# Altium schematic symbol library schem_lib.SchLib: 11 symbols
Pins are listed as number, name and electrical type; pins without a type are passive.

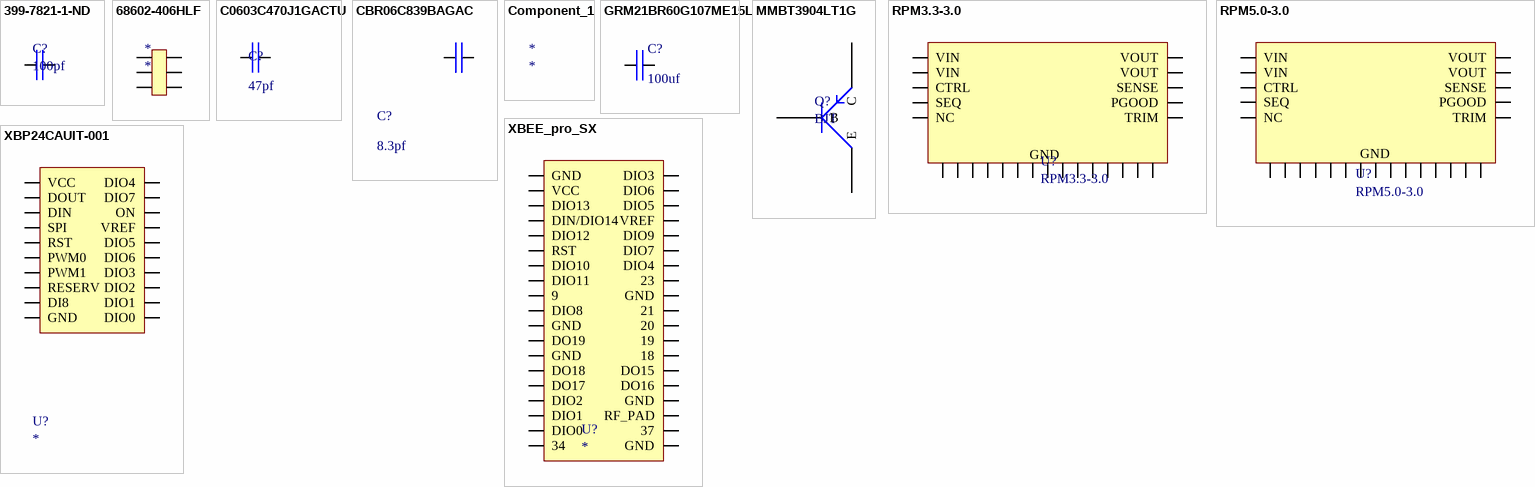
[diagram p0: symbols 399-7821-1-ND to XBP24CAUIT-001]

## 399-7821-1-ND
designator C?, comment 100pf
KEMET - C0603C101J1GACTU - Multilayer Ceramic Capacitor, C Series, 100 pF, - 5%, C0G / NP0, 100 V, 0603 [1608 Metric] RoHS Compliant: Yes; Voltage Rating (DC): 100V; Supplier 1: Digi-Key; Manufacturer: KEMET; Manufacturer Part Number: C0603C101J1GACTU; RoHS: Yes; Category: Ceramic Capacitors; Stock 1: 133506; Pricing 1: 1=0.10000, 10=0.06000, 100=0.02670, 500=0.01906, 1000=0.01497 (USD); Mount: Surface Mount; Case/Package: 0603; Dielectric Material: Ceramic; Min Operating Temperature: -55°C; Max Operating Temperature: 125°C; Capacitance: 100pF; Tolerance: 5%; Packaging: Tape and Reel; Dielectric: C0G; Length: 1.6mm; Height: 0.8mm; Depth: 0.8mm; Radiation Hardening: No; Lead Free: Lead Free; ComponentLink1URL: https://datasheet.ciiva.com/18192/getdatasheetpartid-308025-18192620.pdf?src-supplier=Verical; ComponentLink1Description: https://datasheet.ciiva.com/18192/getdatasheetpartid-308025-18192620.pdf?src-supplier=Verical; Supplier Part Number 1: 399-7821-1-ND
footprint 0603
pins: 1, 2

## 68602-406HLF
designator *
Headers & Wire Housings 6P DR VRT UNSHRD HDR TIN OVER NICKEL; Manufacturer: Amphenol FCI; Manufacturer Part Number: 68602-406HLF; Number of Positions: 6; Max Voltage Rating (AC): 1.5kV; Connector Type: Male Pin; Current Rating: 3A; Insulation Resistance: 5GR; Pitch: 2.54mm; Row Spacing: 0.1inch; Contact Post Length: 3.81mm; Supplier 1: Digi-Key; RoHS: Yes; Category: Headers and Wire Housings; Stock 1: 6197; Pricing 1: 1=0.25000, 10=0.23400, 100=0.16220, 500=0.13728, 1000=0.11232, 5000=0.09984, 10000=0.09048 (USD); Mount: Through Hole; Housing Color: Black; Contact Plating: Tin; Contact Material: Bronze; Color: Black; Housing Material: Thermoplastic; Min Operating Temperature: -65°C; Max Operating Temperature: 125°C; Orientation: Straight; Termination: Solder; Number of Contacts: 6; Number of Rows: 2; Package Quantity: 100; Packaging: Bulk; Voltage Rating: 1.5kV; Contact Gender: Male; Length: 7.62mm; Depth: 4.83mm; Contact Mating Length: 0.23inch; Radiation Hardening: No; Flammability Rating: UL94 V-0; ComponentLink1URL: https://datasheet.ciiva.com/726/67996-726439.pdf?src-supplier=Digi-Key; ComponentLink1Description: https://datasheet.ciiva.com/726/67996-726439.pdf?src-supplier=Digi-Key; ComponentLink2URL: https://datasheet.ciiva.com/9473/67996-9473577.pdf?src-supplier=Avnet; ComponentLink2Description: https://datasheet.ciiva.com/9473/67996-9473577.pdf?src-supplier=Avnet; Supplier Part Number 1: 609-4934-ND
pins: 1, 2, 3, 4, 5, 6

## C0603C470J1GACTU
designator C?, comment 47pf
CAP CER 47PF 100V C0G/NP0 0603; Manufacturer: KEMET; Manufacturer Part Number: C0603C470J1GACTU; Dielectric Material: Ceramic; Tolerance: 5%; Dielectric: C0G; Temperature Coefficient: 30ppm/°C; Dissipation Factor: 0.1%; Supplier 1: Digi-Key; RoHS: Yes; Category: Ceramic Capacitors; Stock 1: 141401; Pricing 1: 1=0.10000, 10=0.06000, 100=0.02670, 500=0.01906, 1000=0.01497 (USD); Mount: Surface Mount,PCB; Case/Package: 0603; Number of Pins: 2; Case Code (Imperial): 0603; Case Code (Metric): 1608; Min Operating Temperature: -55°C; Max Operating Temperature: 125°C; Capacitance: 47pF; Package Quantity: 4000; Voltage Rating: 100V; Voltage Rating (DC): 100V; Packaging: Tape and Reel; Termination: SMD/SMT; Voltage: 100V; Length: 1.6mm; Height: 0.8mm; Width: 0.8mm; Lead Pitch: 0.7mm; Thickness: 0.034inch; Depth: 0.8mm; Radiation Hardening: No; REACH SVHC: No SVHC; Lead Free: Lead Free; ComponentLink1URL: https://datasheet.ciiva.com/28668/1789732-28668693.pdf?src-supplier=Element14; ComponentLink1Description: https://datasheet.ciiva.com/28668/1789732-28668693.pdf?src-supplier=Element14; ComponentLink2URL: https://datasheet.ciiva.com/18193/getdatasheetpartid-544691-18193046.pdf?src-supplier=Verical; ComponentLink2Description: https://datasheet.ciiva.com/18193/getdatasheetpartid-544691-18193046.pdf?src-supplier=Verical; ComponentLink3URL: https://datasheet.ciiva.com/18101/getdatasheetpartid-38001-18101098.pdf?src-supplier=Verical; ComponentLink3Description: https://datasheet.ciiva.com/18101/getdatasheetpartid-38001-18101098.pdf?src-supplier=Verical; Supplier Part Number 1: 399-7917-1-ND
footprint 0603
pins: 1, 2

## CBR06C839BAGAC
designator C?, comment 8.3pf
CAP CER RF 8.3PF 250V +/-0.1 PF; Manufacturer: KEMET; Manufacturer Part Number: CBR06C839BAGAC; Description: .050 X .050 C.L. FEMALE IDC ASSE; Supplier 1: Digi-Key; RoHS: No; Category: Ceramic Capacitors; Stock 1: 2499; Pricing 1: 1=0.93000, 10=0.68500, 100=0.46970, 500=0.37184, 1000=0.31312 (USD); Supplier Part Number 1: 399-16262-1-ND
footprint 0603
pins: 1, 2

## Component_1
designator *

## GRM21BR60G107ME15L
designator C?, comment 100uf
MURATA - GRM21BR60G107ME15L - CAP, 100µF, 4V, 20%, X5R, 0805; Dielectric Material: Ceramic; Dissipation Factor: 0.1%; Supplier 1: Digi-Key; Manufacturer: Murata; Manufacturer Part Number: GRM21BR60G107ME15L; RoHS: Yes; Category: Ceramic Capacitors; Pricing 1: 1=1.07000, 10=0.84100, 100=0.63070, 500=0.47656, 1000=0.42049 (USD); Mount: Surface Mount; Case/Package: 0805; Weight: 0.000335oz; Case Code (Metric): 2012; Case Code (Imperial): 0805; Min Operating Temperature: -55°C; Max Operating Temperature: 85°C; Tolerance: 20%; Dielectric: X5R; Voltage Rating (DC): 4V; Packaging: Tape and Reel; Voltage Rating: 4V; Voltage: 4V; Termination: SMD/SMT; Package Quantity: 3000; Capacitance: 100uF; Length: 2mm; Height: 1.25mm; Width: 0.049inch; Thickness: 0.057inch; Depth: 1.25mm; REACH SVHC: No SVHC; Lead Free: Lead Free; ComponentLink1URL: http://www.farnell.com/datasheets/2079181.pdf?src-supplier=Farnell; ComponentLink1Description: http://www.farnell.com/datasheets/2079181.pdf?src-supplier=Farnell; ComponentLink2URL: http://www.mouser.com/ds/2/281/c02e-2905.pdf?src-supplier=Mouser; ComponentLink2Description: http://www.mouser.com/ds/2/281/c02e-2905.pdf?src-supplier=Mouser; ComponentLink3URL: http://psearch.en.murata.com/capacitor/product/GRM21BR60G107ME15%23.pdf?src-supplier=Avnet; ComponentLink3Description: http://psearch.en.murata.com/capacitor/product/GRM21BR60G107ME15%23.pdf?src-supplier=Avnet; ComponentLink4URL: http://www.farnell.com/datasheets/2079181.pdf?src-supplier=Element14; ComponentLink4Description: http://www.farnell.com/datasheets/2079181.pdf?src-supplier=Element14; ComponentLink5URL: https://search.murata.co.jp/Ceramy/image/img/A01X/partnumbering_e_01.pdf?src-supplier=Digi-Key; ComponentLink5Description: https://search.murata.co.jp/Ceramy/image/img/A01X/partnumbering_e_01.pdf?src-supplier=Digi-Key; ComponentLink6URL: http://www.farnell.com/datasheets/2079181.pdf?src-supplier=Newark; ComponentLink6Description: http://www.farnell.com/datasheets/2079181.pdf?src-supplier=Newark; Supplier Part Number 1: 490-10510-1-ND
footprint C0805
pins: 1, 2

## MMBT3904LT1G
designator Q?, comment BJT
Transistor, Bipolar, Si, NPN, General Purpose, VCEO 40VDC, IC 200mA, PD 225mW, SOT-23; Manufacturer: ON Semiconductor; Manufacturer Part Number: MMBT3904LT1G; Max Power Dissipation: 300mW; Number of Elements: 1; Frequency: 300MHz; hFE Min: 100; Collector Emitter Voltage (VCEO): 40V; Collector Base Voltage (VCBO): 60V; Emitter Base Voltage (VEBO): 6V; Collector Emitter Saturation Voltage: 300mV; Element Configuration: Single; Supplier 1: Digi-Key; RoHS: Yes; Category: BJTs; Stock 1: 1679516; Pricing 1: 1=0.12000, 10=0.11200, 25=0.10640, 100=0.04680, 250=0.04488, 500=0.03672, 1000=0.02550 (USD); Case/Package: SOT-23-3; Number of Pins: 3; Contact Plating: Tin,Matte; Min Operating Temperature: -55°C; Max Operating Temperature: 150°C; Package Quantity: 1; Packaging: Tape and Reel; Max Collector Current: 200mA; Transition Frequency: 300MHz; Polarity: NPN; Collector Emitter Breakdown Voltage: 40V; Max Breakdown Voltage: 40V; Power Dissipation: 300mW; Gain Bandwidth Product: 300MHz; Max Frequency: 300MHz; Voltage Rating (DC): 40V; Current Rating: 200mA; Type: General Purpose; Length: 2.9mm; Height: 0.94mm; Width: 1.3mm; Radiation Hardening: No; REACH SVHC: No SVHC; Lead Free: Lead Free; ComponentLink1URL: https://datasheet.ciiva.com/16199/mmbt3904lt1-d-16199009.pdf?src-supplier=Future+Electronics; ComponentLink1Description: https://datasheet.ciiva.com/16199/mmbt3904lt1-d-16199009.pdf?src-supplier=Future+Electronics; ComponentLink2URL: https://datasheet.ciiva.com/4723/mmbt3904lt1-d-113169-4723050.pdf?src-supplier=Mouser; ComponentLink2Description: https://datasheet.ciiva.com/4723/mmbt3904lt1-d-113169-4723050.pdf?src-supplier=Mouser; ComponentLink3URL: https://datasheet.ciiva.com/15138/getdatasheetpartid-53263-15138779.pdf?src-supplier=Verical; ComponentLink3Description: https://datasheet.ciiva.com/15138/getdatasheetpartid-53263-15138779.pdf?src-supplier=Verical; ComponentLink4URL: https://datasheet.ciiva.com/11199/mmbt3904lt1-d-11199003.pdf?src-supplier=Avnet; ComponentLink4Description: https://datasheet.ciiva.com/11199/mmbt3904lt1-d-11199003.pdf?src-supplier=Avnet; ComponentLink5URL: https://datasheet.ciiva.com/976/mmbt3904lt1-d-976364.pdf?src-supplier=Digi-Key; ComponentLink5Description: https://datasheet.ciiva.com/976/mmbt3904lt1-d-976364.pdf?src-supplier=Digi-Key; ComponentLink6URL: https://datasheet.ciiva.com/14546/70099530-14546188.pdf?src-supplier=Allied+Electronics; ComponentLink6Description: https://datasheet.ciiva.com/14546/70099530-14546188.pdf?src-supplier=Allied+Electronics; ComponentLink7URL: https://datasheet.ciiva.com/7972/1708269-7972381.pdf?src-supplier=Element14; ComponentLink7Description: https://datasheet.ciiva.com/7972/1708269-7972381.pdf?src-supplier=Element14; ComponentLink8URL: https://datasheet.ciiva.com/22664/1708269-22664159.pdf?src-supplier=Element14; ComponentLink8Description: https://datasheet.ciiva.com/22664/1708269-22664159.pdf?src-supplier=Element14; ComponentLink9URL: https://datasheet.ciiva.com/976/mmbt3904lt1-d-976362.pdf?src-supplier=Digi-Key; ComponentLink9Description: https://datasheet.ciiva.com/976/mmbt3904lt1-d-976362.pdf?src-supplier=Digi-Key; ComponentLink10URL: https://datasheet.ciiva.com/16478/mmbt3904lt1-d-16478538.pdf?src-supplier=Avnet+Asia; ComponentLink10Description: https://datasheet.ciiva.com/16478/mmbt3904lt1-d-16478538.pdf?src-supplier=Avnet+Asia; ComponentLink11URL: https://datasheet.ciiva.com/976/mmbt3904lt1-d-976363.pdf?src-supplier=Digi-Key; ComponentLink11Description: https://datasheet.ciiva.com/976/mmbt3904lt1-d-976363.pdf?src-supplier=Digi-Key; Supplier Part Number 1: MMBT3904LT1GOSCT-ND
footprint MMBT3904LT1G (BJT)
pins: 1 B, 2 C, 3 E

## RPM3.3-3.0
designator U?
RPM-3.0 Series 3 to 17 V Input 3.3 V Output 3 A Non Isolated DC/DC Converter; Manufacturer: Recom; Supplier 1: Digi-Key; Manufacturer Part Number: RPM3.3-3.0; RoHS: No; Category: Voltage Regulators - Switching; Stock 1: 287; Pricing 1: 1=4.26000 (USD); ComponentLink1URL: https://www.recom-power.com/pdf/Innoline/RPM-3.0.pdf?src-supplier=Digi-Key; ComponentLink1Description: https://www.recom-power.com/pdf/Innoline/RPM-3.0.pdf?src-supplier=Digi-Key; Supplier Part Number 1: 945-3253-1-ND
footprint 25-BLGA
pins: A1 VIN, A2 VIN, A3 GND, A4 GND, A5 VOUT, B1 GND, B2 GND, B3 GND, B4 GND, B5 VOUT, C1 CTRL, C2 GND, C3 GND, C4 GND, C5 SENSE, D1 PGOOD, D2 GND, D3 GND, D4 GND, D5 GND, E1 SEQ, E2 NC, E3 GND, E4 GND, E5 TRIM

## RPM5.0-3.0
designator U?
DC-DC Converter; SMD; reg; Single Output; 3A; 5V Out; RPM-3.0 Series; Manufacturer: Recom; Supplier 1: Digi-Key; Manufacturer Part Number: RPM5.0-3.0; RoHS: No; Category: Voltage Regulators - Switching; Stock 1: 929; Pricing 1: 1=4.26000 (USD); ComponentLink1URL: http://www.farnell.com/datasheets/2787803.pdf?src-supplier=Farnell; ComponentLink1Description: http://www.farnell.com/datasheets/2787803.pdf?src-supplier=Farnell; ComponentLink2URL: https://www.recom-power.com/pdf/Innoline/RPM-3.0.pdf?src-supplier=Digi-Key; ComponentLink2Description: https://www.recom-power.com/pdf/Innoline/RPM-3.0.pdf?src-supplier=Digi-Key; Supplier Part Number 1: 945-3254-1-ND
footprint 25-BLGA
pins: A1 VIN, A2 VIN, A3 GND, A4 GND, A5 VOUT, B1 GND, B2 GND, B3 GND, B4 GND, B5 VOUT, C1 CTRL, C2 GND, C3 GND, C4 GND, C5 SENSE, D1 PGOOD, D2 GND, D3 GND, D4 GND, D5 GND, E1 SEQ, E2 NC, E3 GND, E4 GND, E5 TRIM

## XBEE_pro_SX
designator U?
XBEE-PRO SX, 1W, DIGIMESH, SMT,; Manufacturer: Digi International; Manufacturer Part Number: XBP9X-DMUS-011; Interface: UART; Frequency: 928MHz; Data Rate: 250Kbps; Sensitivity: -113dBm; Current - Receiving: 40mA; Current - Transmitting: 900mA; Supplier 1: Digi-Key; RoHS: No; Category: RF Receivers, Transceivers; Stock 1: 48; Pricing 1: 1=86.25000 (USD); Mount: Surface Mount; Case/Package: Module; Min Operating Temperature: -40°C; Max Operating Temperature: 85°C; Packaging: Tray; ComponentLink1URL: https://www.digi.com/resources/documentation/digidocs/pdfs/90001500.pdf?src-supplier=Digi-Key; ComponentLink1Description: https://www.digi.com/resources/documentation/digidocs/pdfs/90001500.pdf?src-supplier=Digi-Key; Supplier Part Number 1: 602-2008-ND
footprint XBEE_RF_ADAPT
pins: 1 GND, 2 VCC, 3 DIO13, 4 DIN/DIO14, 5 DIO12, 6 RST, 7 DIO10, 8 DIO11, 9, 10 DIO8, 11 GND, 12 DO19, 13 GND, 14 DO18, 15 DO17, 16 DO16, 17 DO15, 18, 19, 20, 21, 22 GND, 23, 24 DIO4, 25 DIO7, 26 DIO9, 27 VREF, 28 DIO5, 29 DIO6, 30 DIO3, 31 DIO2, 32 DIO1, 33 DIO0, 34, 35 GND, 36 RF_PAD, 37, 38 GND

## XBP24CAUIT-001
designator U?
Rf Transceiver Module, 2.4GHZ, -101DBM; Manufacturer: Digi International; Manufacturer Part Number: XBP24CAUIT-001; Interface: SPI,UART; Data Rate: 1Mbps; Current - Receiving: 31mA; Current - Transmitting: 120mA; Supplier 1: Digi-Key; RoHS: No; Category: RF Receivers, Transceivers; Stock 1: 500; Pricing 1: 1=32.56000 (USD); Mount: Through Hole; Case/Package: Module; Min Operating Temperature: -40°C; Max Operating Temperature: 85°C; Packaging: Tray; Frequency: 2.4GHz; Sensitivity: -101dBm; ComponentLink1URL: https://www.digi.com/resources/documentation/digidocs/pdfs/90001500.pdf?src-supplier=Digi-Key; ComponentLink1Description: https://www.digi.com/resources/documentation/digidocs/pdfs/90001500.pdf?src-supplier=Digi-Key; Supplier Part Number 1: 602-1897-ND
footprint XBEE_RF
pins: 1 VCC, 2 DOUT, 3 DIN, 4 SPI, 5 RST, 6 PWM0, 7 PWM1, 8 RESERV, 9 DI8, 10 GND, 11 DIO4, 12 DIO7, 13 ON, 14 VREF, 15 DIO5, 16 DIO6, 17 DIO3, 18 DIO2, 19 DIO1, 20 DIO0